# Altium schematic symbol library XH-MegaStar_2.5mm.SchLib: 18 symbols
Pins are listed as number, name and electrical type; pins without a type are passive.

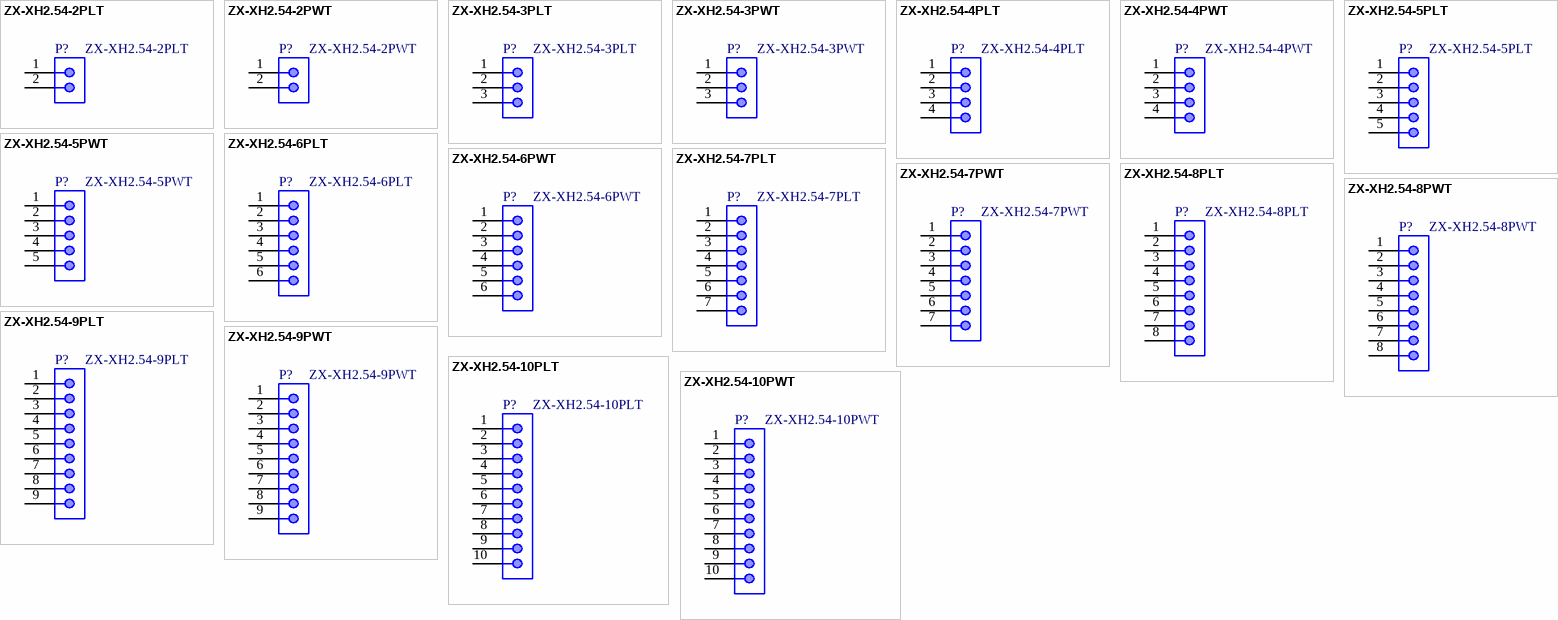
[diagram p0: symbols ZX-XH2.54-2PLT to ZX-XH2.54-10PWT]

## ZX-XH2.54-2PLT
designator P?
1x2P 2P XH 1 2.54mm Tin 2 -25℃~+85℃ Brass 3A Standing paste SMD,P=2.54mm Wire To Board Connector ROHS; Manufacturer: Megastar; Pin Number: 2; Contact Resistance: 20mOhm; Gender: Male; Withstanding Voltage: 1000VAC; Working Voltage: 250VAC; ComponentLink1Description: Datasheet; ComponentLink1URL: https://www.lcsc.com/datasheet/lcsc_datasheet_2306191415_Megastar-ZX-XH2-54-10PLT_C7429688.pdf; Pitch: 2.54mm; Packaging: SMD,P=2.54mm; Type: Standing paste; Rated Current: 3A; Supplier 1 URL: N/A; Supplier 2 URL: N/A; Supplier 3 URL: N/A; Value: ZX-XH2.54-2PLT; LCSC Part #: C7429680; Manufacturer Part Number: ZX-XH2.54-2PLT; Mount: SMD; Operating Temperature Max: + 85 C; Operating Temperature Min: - 25 C; Package / Case: 2; Supplier 1: Mouser; Supplier 1 Part Number: N/A; Supplier 2: Digi-Key; Supplier 2 Part Number: N/A; Supplier 3: thegioiic; Supplier 3 Part Number: N/A
footprint ZX-XH2.54-2PLT
pins: 1, 2

## ZX-XH2.54-2PWT
designator P?
1x2P 2P XH 1 2.54mm Tin 2 -25℃~+85℃ Brass 3A Horizontal attachment SMD,P=2.54mm,Surface Mount，Right Angle Wire To Board Connector ROHS; Manufacturer: Megastar; Pin Number: 2; Contact Resistance: 20mOhm; Gender: Male; Withstanding Voltage: 1000VAC; Working Voltage: 250VAC; ComponentLink1Description: Datasheet; ComponentLink1URL: https://www.lcsc.com/datasheet/lcsc_datasheet_2306191414_Megastar-ZX-XH2-54-2PWT_C7429671.pdf; Pitch: 2.54mm; Packaging: SMD,P=2.54mm,Surface Mount，Right Angle; Type: Right Angled Bottom Locking; Rated Current: 3A; Supplier 1 URL: N/A; Supplier 2 URL: N/A; Supplier 3 URL: N/A; Value: ZX-XH2.54-2PWT; LCSC Part #: C7429671; Manufacturer Part Number: ZX-XH2.54-2PWT; Mount: SMD; Operating Temperature Max: + 85 C; Operating Temperature Min: - 25 C; Package / Case: 2; Supplier 1: Mouser; Supplier 1 Part Number: N/A; Supplier 2: Digi-Key; Supplier 2 Part Number: N/A; Supplier 3: thegioiic; Supplier 3 Part Number: N/A
footprint ZX-XH2.54-2PWT
pins: 1, 2

## ZX-XH2.54-3PLT
designator P?
1x3P 3P XH 1 2.54mm Tin 3 -25℃~+85℃ Brass 3A Standing paste SMD,P=2.54mm Wire To Board Connector ROHS; Manufacturer: Megastar; Pin Number: 3; Contact Resistance: 20mOhm; Gender: Male; Withstanding Voltage: 1000VAC; Working Voltage: 250VAC; ComponentLink1Description: Datasheet; ComponentLink1URL: https://www.lcsc.com/datasheet/lcsc_datasheet_2306191415_Megastar-ZX-XH2-54-10PLT_C7429688.pdf; Pitch: 2.54mm; Packaging: SMD,P=2.54mm; Type: Standing paste; Rated Current: 3A; Supplier 1 URL: N/A; Supplier 2 URL: N/A; Supplier 3 URL: N/A; Value: ZX-XH2.54-3PLT; LCSC Part #: C7429681; Manufacturer Part Number: ZX-XH2.54-3PLT; Mount: SMD; Operating Temperature Max: + 85 C; Operating Temperature Min: - 25 C; Package / Case: 3; Supplier 1: Mouser; Supplier 1 Part Number: N/A; Supplier 2: Digi-Key; Supplier 2 Part Number: N/A; Supplier 3: thegioiic; Supplier 3 Part Number: N/A
footprint ZX-XH2.54-3PLT
pins: 1, 2, 3

## ZX-XH2.54-3PWT
designator P?
1x3P 3P XH 1 2.54mm Tin 3 -25℃~+85℃ Brass 3A Horizontal attachment SMD,P=2.54mm,Surface Mount，Right Angle Wire To Board Connector ROHS; Manufacturer: Megastar; Pin Number: 3; Contact Resistance: 20mOhm; Gender: Male; Withstanding Voltage: 1000VAC; Working Voltage: 250VAC; ComponentLink1Description: Datasheet; ComponentLink1URL: https://www.lcsc.com/datasheet/lcsc_datasheet_2306191414_Megastar-ZX-XH2-54-2PWT_C7429671.pdf; Pitch: 2.54mm; Packaging: SMD,P=2.54mm,Surface Mount，Right Angle; Type: Right Angled Bottom Locking; Rated Current: 3A; Supplier 1 URL: N/A; Supplier 2 URL: N/A; Supplier 3 URL: N/A; Value: ZX-XH2.54-3PWT; LCSC Part #: C7429672; Manufacturer Part Number: ZX-XH2.54-3PWT; Mount: SMD; Operating Temperature Max: + 85 C; Operating Temperature Min: - 25 C; Package / Case: 3; Supplier 1: Mouser; Supplier 1 Part Number: N/A; Supplier 2: Digi-Key; Supplier 2 Part Number: N/A; Supplier 3: thegioiic; Supplier 3 Part Number: N/A
footprint ZX-XH2.54-3PWT (2.54mm Male Left Angled Header Bottom Locking, 3p, SMD)
pins: 1, 2, 3

## ZX-XH2.54-4PLT
designator P?
1x4P 4P XH 1 2.54mm Tin 4 -25℃~+85℃ Brass 3A Standing paste SMD,P=2.54mm Wire To Board Connector ROHS; Manufacturer: Megastar; Pin Number: 4; Contact Resistance: 20mOhm; Gender: Male; Withstanding Voltage: 1000VAC; Working Voltage: 250VAC; ComponentLink1Description: Datasheet; ComponentLink1URL: https://www.lcsc.com/datasheet/lcsc_datasheet_2306191415_Megastar-ZX-XH2-54-10PLT_C7429688.pdf; Pitch: 2.54mm; Packaging: SMD,P=2.54mm; Type: Standing paste; Rated Current: 3A; Supplier 1 URL: N/A; Supplier 2 URL: N/A; Supplier 3 URL: N/A; Value: ZX-XH2.54-4PLT; LCSC Part #: C7429682; Manufacturer Part Number: ZX-XH2.54-4PLT; Mount: SMD; Operating Temperature Max: + 85 C; Operating Temperature Min: - 25 C; Package / Case: 4; Supplier 1: Mouser; Supplier 1 Part Number: N/A; Supplier 2: Digi-Key; Supplier 2 Part Number: N/A; Supplier 3: thegioiic; Supplier 3 Part Number: N/A
footprint ZX-XH2.54-4PLT
pins: 1, 2, 3, 4

## ZX-XH2.54-4PWT
designator P?
1x4P 4P XH 1 2.54mm Tin 4 -25℃~+85℃ Brass 3A Horizontal attachment SMD,P=2.54mm,Surface Mount，Right Angle Wire To Board Connector ROHS; Manufacturer: Megastar; Pin Number: 4; Contact Resistance: 20mOhm; Gender: Male; Withstanding Voltage: 1000VAC; Working Voltage: 250VAC; ComponentLink1Description: Datasheet; ComponentLink1URL: https://www.lcsc.com/datasheet/lcsc_datasheet_2306191414_Megastar-ZX-XH2-54-2PWT_C7429671.pdf; Pitch: 2.54mm; Packaging: SMD,P=2.54mm,Surface Mount，Right Angle; Type: Right Angled Bottom Locking; Rated Current: 3A; Supplier 1 URL: N/A; Supplier 2 URL: N/A; Supplier 3 URL: N/A; Value: ZX-XH2.54-4PWT; LCSC Part #: C7429673; Manufacturer Part Number: ZX-XH2.54-4PWT; Mount: SMD; Operating Temperature Max: + 85 C; Operating Temperature Min: - 25 C; Package / Case: 4; Supplier 1: Mouser; Supplier 1 Part Number: N/A; Supplier 2: Digi-Key; Supplier 2 Part Number: N/A; Supplier 3: thegioiic; Supplier 3 Part Number: N/A
footprint ZX-XH2.54-4PWT (2.54mm Male Left Angled Header Bottom Locking, 4p, SMD)
pins: 1, 2, 3, 4

## ZX-XH2.54-5PLT
designator P?
1x5P 5P XH 1 2.54mm Tin 5 -25℃~+85℃ Brass 3A Standing paste SMD,P=2.54mm Wire To Board Connector ROHS; Manufacturer: Megastar; Pin Number: 5; Contact Resistance: 20mOhm; Gender: Male; Withstanding Voltage: 1000VAC; Working Voltage: 250VAC; ComponentLink1Description: Datasheet; ComponentLink1URL: https://www.lcsc.com/datasheet/lcsc_datasheet_2306191415_Megastar-ZX-XH2-54-10PLT_C7429688.pdf; Pitch: 2.54mm; Packaging: SMD,P=2.54mm; Type: Standing paste; Rated Current: 3A; Supplier 1 URL: N/A; Supplier 2 URL: N/A; Supplier 3 URL: N/A; Value: ZX-XH2.54-5PLT; LCSC Part #: C7429683; Manufacturer Part Number: ZX-XH2.54-5PLT; Mount: SMD; Operating Temperature Max: + 85 C; Operating Temperature Min: - 25 C; Package / Case: 5; Supplier 1: Mouser; Supplier 1 Part Number: N/A; Supplier 2: Digi-Key; Supplier 2 Part Number: N/A; Supplier 3: thegioiic; Supplier 3 Part Number: N/A
footprint ZX-XH2.54-5PLT
pins: 1, 2, 3, 4, 5

## ZX-XH2.54-5PWT
designator P?
1x5P 5P XH 1 2.54mm Tin 5 -25℃~+85℃ Brass 3A Horizontal attachment SMD,P=2.54mm,Surface Mount，Right Angle Wire To Board Connector ROHS; Manufacturer: Megastar; Pin Number: 5; Contact Resistance: 20mOhm; Gender: Male; Withstanding Voltage: 1000VAC; Working Voltage: 250VAC; ComponentLink1Description: Datasheet; ComponentLink1URL: https://www.lcsc.com/datasheet/lcsc_datasheet_2306191414_Megastar-ZX-XH2-54-2PWT_C7429671.pdf; Pitch: 2.54mm; Packaging: SMD,P=2.54mm,Surface Mount，Right Angle; Type: Right Angled Bottom Locking; Rated Current: 3A; Supplier 1 URL: N/A; Supplier 2 URL: N/A; Supplier 3 URL: N/A; Value: ZX-XH2.54-5PWT; LCSC Part #: C7429674; Manufacturer Part Number: ZX-XH2.54-5PWT; Mount: SMD; Operating Temperature Max: + 85 C; Operating Temperature Min: - 25 C; Package / Case: 5; Supplier 1: Mouser; Supplier 1 Part Number: N/A; Supplier 2: Digi-Key; Supplier 2 Part Number: N/A; Supplier 3: thegioiic; Supplier 3 Part Number: N/A
footprint ZX-XH2.54-5PWT (2.54mm Male Left Angled Header Bottom Locking, 5p, SMD)
pins: 1, 2, 3, 4, 5

## ZX-XH2.54-6PLT
designator P?
1x6P 6P XH 1 2.54mm Tin 6 -25℃~+85℃ Brass 3A Standing paste SMD,P=2.54mm Wire To Board Connector ROHS; Manufacturer: Megastar; Pin Number: 6; Contact Resistance: 20mOhm; Gender: Male; Withstanding Voltage: 1000VAC; Working Voltage: 250VAC; ComponentLink1Description: Datasheet; ComponentLink1URL: https://www.lcsc.com/datasheet/lcsc_datasheet_2306191415_Megastar-ZX-XH2-54-10PLT_C7429688.pdf; Pitch: 2.54mm; Packaging: SMD,P=2.54mm; Type: Standing paste; Rated Current: 3A; Supplier 1 URL: N/A; Supplier 2 URL: N/A; Supplier 3 URL: N/A; Value: ZX-XH2.54-6PLT; LCSC Part #: C7429684; Manufacturer Part Number: ZX-XH2.54-6PLT; Mount: SMD; Operating Temperature Max: + 85 C; Operating Temperature Min: - 25 C; Package / Case: 6; Supplier 1: Mouser; Supplier 1 Part Number: N/A; Supplier 2: Digi-Key; Supplier 2 Part Number: N/A; Supplier 3: thegioiic; Supplier 3 Part Number: N/A
footprint ZX-XH2.54-6PLT
pins: 1, 2, 3, 4, 5, 6

## ZX-XH2.54-6PWT
designator P?
1x6P 6P XH 1 2.54mm Tin 6 -25℃~+85℃ Brass 3A Horizontal attachment SMD,P=2.54mm,Surface Mount，Right Angle Wire To Board Connector ROHS; Manufacturer: Megastar; Pin Number: 6; Contact Resistance: 20mOhm; Gender: Male; Withstanding Voltage: 1000VAC; Working Voltage: 250VAC; ComponentLink1Description: Datasheet; ComponentLink1URL: https://www.lcsc.com/datasheet/lcsc_datasheet_2306191414_Megastar-ZX-XH2-54-2PWT_C7429671.pdf; Pitch: 2.54mm; Packaging: SMD,P=2.54mm,Surface Mount，Right Angle; Type: Right Angled Bottom Locking; Rated Current: 3A; Supplier 1 URL: N/A; Supplier 2 URL: N/A; Supplier 3 URL: N/A; Value: ZX-XH2.54-6PWT; LCSC Part #: C7429675; Manufacturer Part Number: ZX-XH2.54-6PWT; Mount: SMD; Operating Temperature Max: + 85 C; Operating Temperature Min: - 25 C; Package / Case: 6; Supplier 1: Mouser; Supplier 1 Part Number: N/A; Supplier 2: Digi-Key; Supplier 2 Part Number: N/A; Supplier 3: thegioiic; Supplier 3 Part Number: N/A
footprint ZX-XH2.54-6PWT (2.54mm Male Left Angled Header Bottom Locking, 6p, SMD)
pins: 1, 2, 3, 4, 5, 6

## ZX-XH2.54-7PLT
designator P?
1x7P 7P XH 1 2.54mm Tin 7 -25℃~+85℃ Brass 3A Standing paste SMD,P=2.54mm Wire To Board Connector ROHS; Manufacturer: Megastar; Pin Number: 7; Contact Resistance: 20mOhm; Gender: Male; Withstanding Voltage: 1000VAC; Working Voltage: 250VAC; ComponentLink1Description: Datasheet; ComponentLink1URL: https://www.lcsc.com/datasheet/lcsc_datasheet_2306191415_Megastar-ZX-XH2-54-10PLT_C7429688.pdf; Pitch: 2.54mm; Packaging: SMD,P=2.54mm; Type: Standing paste; Rated Current: 3A; Supplier 1 URL: N/A; Supplier 2 URL: N/A; Supplier 3 URL: N/A; Value: ZX-XH2.54-7PLT; LCSC Part #: C7429685; Manufacturer Part Number: ZX-XH2.54-7PLT; Mount: SMD; Operating Temperature Max: + 85 C; Operating Temperature Min: - 25 C; Package / Case: 7; Supplier 1: Mouser; Supplier 1 Part Number: N/A; Supplier 2: Digi-Key; Supplier 2 Part Number: N/A; Supplier 3: thegioiic; Supplier 3 Part Number: N/A
footprint ZX-XH2.54-7PLT
pins: 1, 2, 3, 4, 5, 6, 7

## ZX-XH2.54-7PWT
designator P?
1x7P 7P XH 1 2.54mm Tin 7 -25℃~+85℃ Brass 3A Horizontal attachment SMD,P=2.54mm,Surface Mount，Right Angle Wire To Board Connector ROHS; Manufacturer: Megastar; Pin Number: 7; Contact Resistance: 20mOhm; Gender: Male; Withstanding Voltage: 1000VAC; Working Voltage: 250VAC; ComponentLink1Description: Datasheet; ComponentLink1URL: https://www.lcsc.com/datasheet/lcsc_datasheet_2306191414_Megastar-ZX-XH2-54-2PWT_C7429671.pdf; Pitch: 2.54mm; Packaging: SMD,P=2.54mm,Surface Mount，Right Angle; Type: Right Angled Bottom Locking; Rated Current: 3A; Supplier 1 URL: N/A; Supplier 2 URL: N/A; Supplier 3 URL: N/A; Value: ZX-XH2.54-7PWT; LCSC Part #: C7429676; Manufacturer Part Number: ZX-XH2.54-7PWT; Mount: SMD; Operating Temperature Max: + 85 C; Operating Temperature Min: - 25 C; Package / Case: 7; Supplier 1: Mouser; Supplier 1 Part Number: N/A; Supplier 2: Digi-Key; Supplier 2 Part Number: N/A; Supplier 3: thegioiic; Supplier 3 Part Number: N/A
footprint ZX-XH2.54-7PWT (2.54mm Male Left Angled Header Bottom Locking, 7p, SMD)
pins: 1, 2, 3, 4, 5, 6, 7

## ZX-XH2.54-8PLT
designator P?
1x8P 8P XH 1 2.54mm Tin 8 -25℃~+85℃ Brass 3A Standing paste SMD,P=2.54mm Wire To Board Connector ROHS; Manufacturer: Megastar; Pin Number: 8; Contact Resistance: 20mOhm; Gender: Male; Withstanding Voltage: 1000VAC; Working Voltage: 250VAC; ComponentLink1Description: Datasheet; ComponentLink1URL: https://www.lcsc.com/datasheet/lcsc_datasheet_2306191415_Megastar-ZX-XH2-54-10PLT_C7429688.pdf; Pitch: 2.54mm; Packaging: SMD,P=2.54mm; Type: Standing paste; Rated Current: 3A; Supplier 1 URL: N/A; Supplier 2 URL: N/A; Supplier 3 URL: N/A; Value: ZX-XH2.54-8PLT; LCSC Part #: C7429686; Manufacturer Part Number: ZX-XH2.54-8PLT; Mount: SMD; Operating Temperature Max: + 85 C; Operating Temperature Min: - 25 C; Package / Case: 8; Supplier 1: Mouser; Supplier 1 Part Number: N/A; Supplier 2: Digi-Key; Supplier 2 Part Number: N/A; Supplier 3: thegioiic; Supplier 3 Part Number: N/A
footprint ZX-XH2.54-8PLT
pins: 1, 2, 3, 4, 5, 6, 7, 8

## ZX-XH2.54-8PWT
designator P?
1x8P 8P XH 1 2.54mm Tin 8 -25℃~+85℃ Brass 3A Horizontal attachment SMD,P=2.54mm,Surface Mount，Right Angle Wire To Board Connector ROHS; Manufacturer: Megastar; Pin Number: 8; Contact Resistance: 20mOhm; Gender: Male; Withstanding Voltage: 1000VAC; Working Voltage: 250VAC; ComponentLink1Description: Datasheet; ComponentLink1URL: https://www.lcsc.com/datasheet/lcsc_datasheet_2306191414_Megastar-ZX-XH2-54-2PWT_C7429671.pdf; Pitch: 2.54mm; Packaging: SMD,P=2.54mm,Surface Mount，Right Angle; Type: Right Angled Bottom Locking; Rated Current: 3A; Supplier 1 URL: N/A; Supplier 2 URL: N/A; Supplier 3 URL: N/A; Value: ZX-XH2.54-8PWT; LCSC Part #: C7429677; Manufacturer Part Number: ZX-XH2.54-8PWT; Mount: SMD; Operating Temperature Max: + 85 C; Operating Temperature Min: - 25 C; Package / Case: 8; Supplier 1: Mouser; Supplier 1 Part Number: N/A; Supplier 2: Digi-Key; Supplier 2 Part Number: N/A; Supplier 3: thegioiic; Supplier 3 Part Number: N/A
footprint ZX-XH2.54-8PWT (2.54mm Male Left Angled Header Bottom Locking, 8p, SMD)
pins: 1, 2, 3, 4, 5, 6, 7, 8

## ZX-XH2.54-9PLT
designator P?
1x9P 9P XH 1 2.54mm Tin 9 -25℃~+85℃ Brass 3A Standing paste SMD,P=2.54mm Wire To Board Connector ROHS; Manufacturer: Megastar; Pin Number: 9; Contact Resistance: 20mOhm; Gender: Male; Withstanding Voltage: 1000VAC; Working Voltage: 250VAC; ComponentLink1Description: Datasheet; ComponentLink1URL: https://www.lcsc.com/datasheet/lcsc_datasheet_2306191415_Megastar-ZX-XH2-54-10PLT_C7429688.pdf; Pitch: 2.54mm; Packaging: SMD,P=2.54mm; Type: Standing paste; Rated Current: 3A; Supplier 1 URL: N/A; Supplier 2 URL: N/A; Supplier 3 URL: N/A; Value: ZX-XH2.54-9PLT; LCSC Part #: C7429687; Manufacturer Part Number: ZX-XH2.54-9PLT; Mount: SMD; Operating Temperature Max: + 85 C; Operating Temperature Min: - 25 C; Package / Case: 9; Supplier 1: Mouser; Supplier 1 Part Number: N/A; Supplier 2: Digi-Key; Supplier 2 Part Number: N/A; Supplier 3: thegioiic; Supplier 3 Part Number: N/A
footprint ZX-XH2.54-9PLT
pins: 1, 2, 3, 4, 5, 6, 7, 8, 9

## ZX-XH2.54-9PWT
designator P?
1x9P 9P XH 1 2.54mm Tin 9 -25℃~+85℃ Brass 3A Horizontal attachment SMD,P=2.54mm,Surface Mount，Right Angle Wire To Board Connector ROHS; Manufacturer: Megastar; Pin Number: 9; Contact Resistance: 20mOhm; Gender: Male; Withstanding Voltage: 1000VAC; Working Voltage: 250VAC; ComponentLink1Description: Datasheet; ComponentLink1URL: https://www.lcsc.com/datasheet/lcsc_datasheet_2306191414_Megastar-ZX-XH2-54-2PWT_C7429671.pdf; Pitch: 2.54mm; Packaging: SMD,P=2.54mm,Surface Mount，Right Angle; Type: Right Angled Bottom Locking; Rated Current: 3A; Supplier 1 URL: N/A; Supplier 2 URL: N/A; Supplier 3 URL: N/A; Value: ZX-XH2.54-9PWT; LCSC Part #: C7429678; Manufacturer Part Number: ZX-XH2.54-9PWT; Mount: SMD; Operating Temperature Max: + 85 C; Operating Temperature Min: - 25 C; Package / Case: 9; Supplier 1: Mouser; Supplier 1 Part Number: N/A; Supplier 2: Digi-Key; Supplier 2 Part Number: N/A; Supplier 3: thegioiic; Supplier 3 Part Number: N/A
footprint ZX-XH2.54-9PWT (2.54mm Male Left Angled Header Bottom Locking, 9p, SMD)
pins: 1, 2, 3, 4, 5, 6, 7, 8, 9

## ZX-XH2.54-10PLT
designator P?
1x10P 10P XH 1 2.54mm Tin 10 -25℃~+85℃ Brass 3A Standing paste SMD,P=2.54mm Wire To Board Connector ROHS; Manufacturer: Megastar; Pin Number: 10; Contact Resistance: 20mOhm; Gender: Male; Withstanding Voltage: 1000VAC; Working Voltage: 250VAC; ComponentLink1Description: Datasheet; ComponentLink1URL: https://www.lcsc.com/datasheet/lcsc_datasheet_2306191415_Megastar-ZX-XH2-54-10PLT_C7429688.pdf; Pitch: 2.54mm; Packaging: SMD,P=2.54mm; Type: Standing paste; Rated Current: 3A; Supplier 1 URL: N/A; Supplier 2 URL: N/A; Supplier 3 URL: N/A; Value: ZX-XH2.54-10PLT; LCSC Part #: C7429688; Manufacturer Part Number: ZX-XH2.54-10PLT; Mount: SMD; Operating Temperature Max: + 85 C; Operating Temperature Min: - 25 C; Package / Case: 10; Supplier 1: Mouser; Supplier 1 Part Number: N/A; Supplier 2: Digi-Key; Supplier 2 Part Number: N/A; Supplier 3: thegioiic; Supplier 3 Part Number: N/A
footprint ZX-XH2.54-10PLT
pins: 1, 2, 3, 4, 5, 6, 7, 8, 9, 10

## ZX-XH2.54-10PWT
designator P?
1x10P 10P XH 1 2.54mm Tin 10 -25℃~+85℃ Brass 3A Horizontal attachment SMD,P=2.54mm,Surface Mount，Right Angle Wire To Board Connector ROHS; Manufacturer: Megastar; Pin Number: 10; Contact Resistance: 20mOhm; Gender: Male; Withstanding Voltage: 1000VAC; Working Voltage: 250VAC; ComponentLink1Description: Datasheet; ComponentLink1URL: https://www.lcsc.com/datasheet/lcsc_datasheet_2306191414_Megastar-ZX-XH2-54-2PWT_C7429671.pdf; Pitch: 2.54mm; Packaging: SMD,P=2.54mm,Surface Mount，Right Angle; Type: Right Angled Bottom Locking; Rated Current: 3A; Supplier 1 URL: N/A; Supplier 2 URL: N/A; Supplier 3 URL: N/A; Value: ZX-XH2.54-10PWT; LCSC Part #: C7429679; Manufacturer Part Number: ZX-XH2.54-10PWT; Mount: SMD; Operating Temperature Max: + 85 C; Operating Temperature Min: - 25 C; Package / Case: 10; Supplier 1: Mouser; Supplier 1 Part Number: N/A; Supplier 2: Digi-Key; Supplier 2 Part Number: N/A; Supplier 3: thegioiic; Supplier 3 Part Number: N/A
footprint ZX-XH2.54-10PWT (2.54mm Male Left Angled Header Bottom Locking, 10p, SMD)
pins: 1, 2, 3, 4, 5, 6, 7, 8, 9, 10